# EAGLE library part ATF1504-100 (library newchips)
Atmel 64-macrocell CPLD
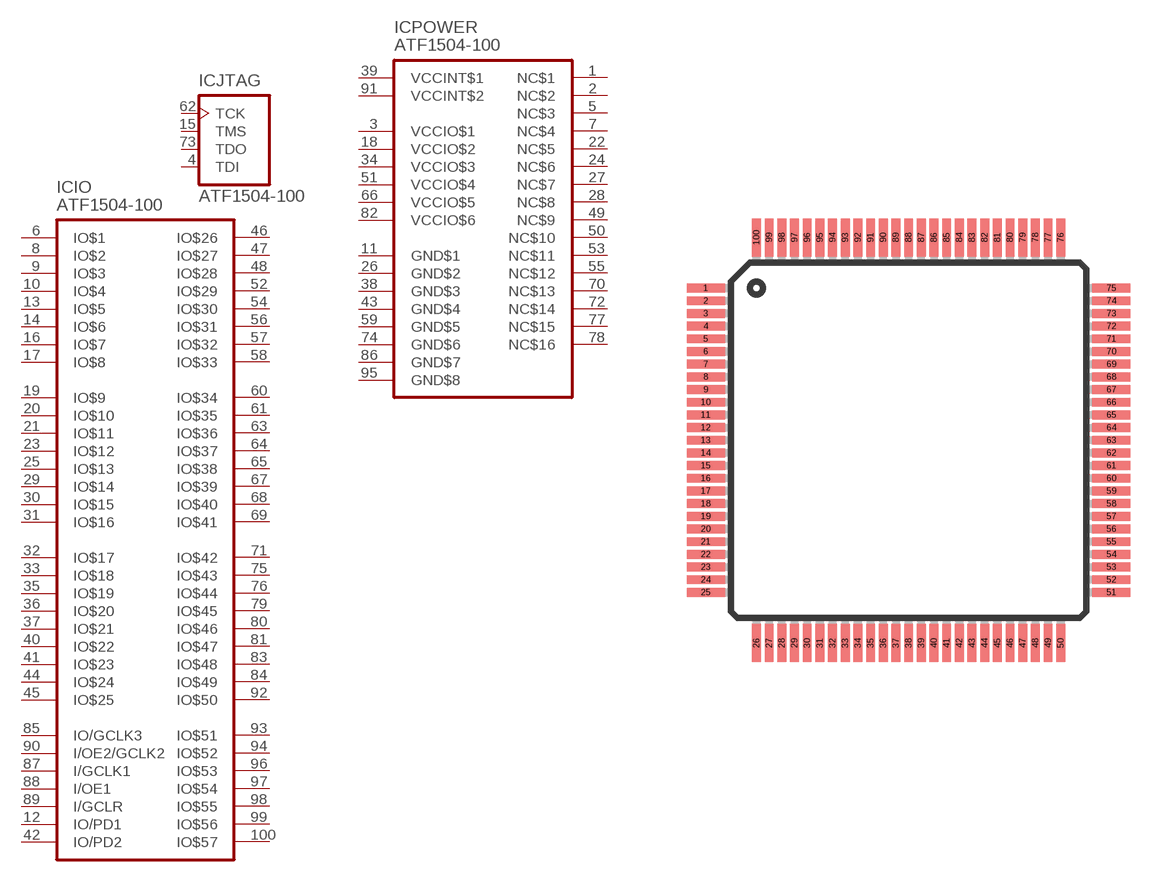
[diagram p6: symbol with the pads of TQFP100; footprint TQFP100]

Designator prefix IC; gates IO=ATF1504-100 JTAG=JTAG POWER=ATF1504-100-PWR

## ATF1504-100A  [TQFP100]
1  POWER:NC$1  pas
2  POWER:NC$2  pas
3  POWER:VCCIO$1  pwr
4  JTAG:TDI  in
5  POWER:NC$3  pas
6  IO:IO$1
7  POWER:NC$4  pas
8  IO:IO$2
9  IO:IO$3
10  IO:IO$4
11  POWER:GND$1  pwr
12  IO:IO/PD1
13  IO:IO$5
14  IO:IO$6
15  JTAG:TMS  in
16  IO:IO$7
17  IO:IO$8
18  POWER:VCCIO$2  pwr
19  IO:IO$9
20  IO:IO$10
21  IO:IO$11
22  POWER:NC$5  pas
23  IO:IO$12
24  POWER:NC$6  pas
25  IO:IO$13
26  POWER:GND$2  pwr
27  POWER:NC$7  pas
28  POWER:NC$8  pas
29  IO:IO$14
30  IO:IO$15
31  IO:IO$16
32  IO:IO$17
33  IO:IO$18
34  POWER:VCCIO$3  pwr
35  IO:IO$19
36  IO:IO$20
37  IO:IO$21
38  POWER:GND$3  pwr
39  POWER:VCCINT$1  pwr
40  IO:IO$22
41  IO:IO$23
42  IO:IO/PD2
43  POWER:GND$4  pwr
44  IO:IO$24
45  IO:IO$25
46  IO:IO$26
47  IO:IO$27
48  IO:IO$28
49  POWER:NC$9  pas
50  POWER:NC$10  pas
51  POWER:VCCIO$4  pwr
52  IO:IO$29
53  POWER:NC$11  pas
54  IO:IO$30
55  POWER:NC$12  pas
56  IO:IO$31
57  IO:IO$32
58  IO:IO$33
59  POWER:GND$5  pwr
60  IO:IO$34
61  IO:IO$35
62  JTAG:TCK  in
63  IO:IO$36
64  IO:IO$37
65  IO:IO$38
66  POWER:VCCIO$5  pwr
67  IO:IO$39
68  IO:IO$40
69  IO:IO$41
70  POWER:NC$13  pas
71  IO:IO$42
72  POWER:NC$14  pas
73  JTAG:TDO  out
74  POWER:GND$6  pwr
75  IO:IO$43
76  IO:IO$44
77  POWER:NC$15  pas
78  POWER:NC$16  pas
79  IO:IO$45
80  IO:IO$46
81  IO:IO$47
82  POWER:VCCIO$6  pwr
83  IO:IO$48
84  IO:IO$49
85  IO:IO/GCLK3
86  POWER:GND$7  pwr
87  IO:I/GCLK1  in
88  IO:I/OE1  in
89  IO:I/GCLR  in
90  IO:I/OE2/GCLK2  in
91  POWER:VCCINT$2  pwr
92  IO:IO$50
93  IO:IO$51
94  IO:IO$52
95  POWER:GND$8  pwr
96  IO:IO$53
97  IO:IO$54
98  IO:IO$55
99  IO:IO$56
100  IO:IO$57

## Footprint TQFP100 (pad centres in mm)
Thin Quad Flat Package
smd 1.5 x 0.35: 1 -8,6; 2 -8,5.5; 3 -8,5; 4 -8,4.5; 5 -8,4; 6 -8,3.5; 7 -8,3; 8 -8,2.5; 9 -8,2; 10 -8,1.5; 11 -8,1; 12 -8,0.5; 13 -8,0; 14 -8,-0.5; 15 -8,-1; 16 -8,-1.5; 17 -8,-2; 18 -8,-2.5; 19 -8,-3; 20 -8,-3.5; 21 -8,-4; 22 -8,-4.5; 23 -8,-5; 24 -8,-5.5; 25 -8,-6; 51 8,-6; 52 8,-5.5; 53 8,-5; 54 8,-4.5; 55 8,-4; 56 8,-3.5; 57 8,-3; 58 8,-2.5; 59 8,-2; 60 8,-1.5; 61 8,-1; 62 8,-0.5; 63 8,0; 64 8,0.5; 65 8,1; 66 8,1.5; 67 8,2; 68 8,2.5; 69 8,3; 70 8,3.5; 71 8,4; 72 8,4.5; 73 8,5; 74 8,5.5; 75 8,6
smd 0.35 x 1.5: 26 -6,-8; 27 -5.5,-8; 28 -5,-8; 29 -4.5,-8; 30 -4,-8; 31 -3.5,-8; 32 -3,-8; 33 -2.5,-8; 34 -2,-8; 35 -1.5,-8; 36 -1,-8; 37 -0.5,-8; 38 0,-8; 39 0.5,-8; 40 1,-8; 41 1.5,-8; 42 2,-8; 43 2.5,-8; 44 3,-8; 45 3.5,-8; 46 4,-8; 47 4.5,-8; 48 5,-8; 49 5.5,-8; 50 6,-8; 76 6,8; 77 5.5,8; 78 5,8; 79 4.5,8; 80 4,8; 81 3.5,8; 82 3,8; 83 2.5,8; 84 2,8; 85 1.5,8; 86 1,8; 87 0.5,8; 88 0,8; 89 -0.5,8; 90 -1,8; 91 -1.5,8; 92 -2,8; 93 -2.5,8; 94 -3,8; 95 -3.5,8; 96 -4,8; 97 -4.5,8; 98 -5,8; 99 -5.5,8; 100 -6,8